# Altium schematic symbol library Wuhu_V1.SCHLIB: 10 symbols
Pins are listed as number, name and electrical type; pins without a type are passive.

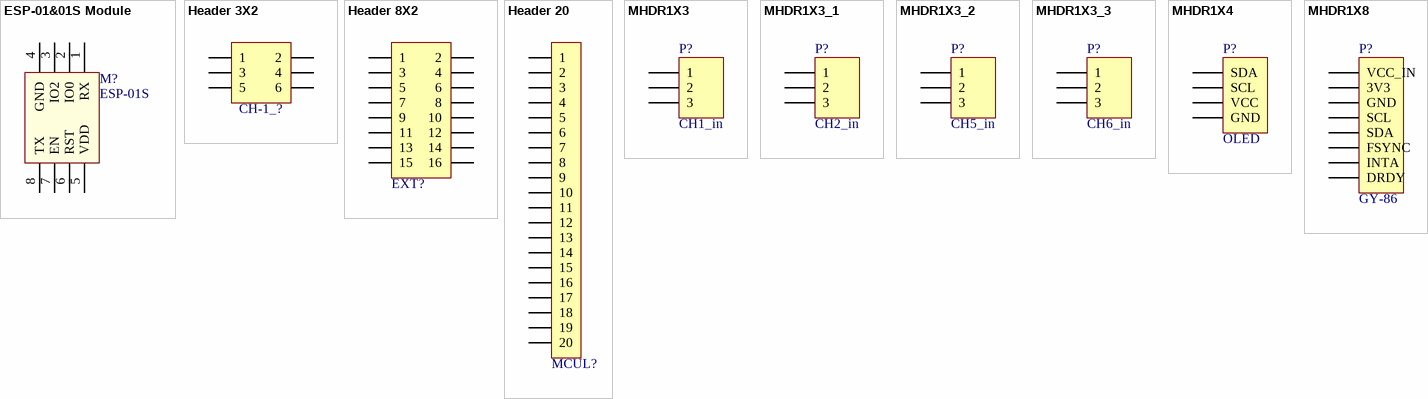
[diagram p0: symbols ESP-01&01S Module to MHDR1X8]

## ESP-01&01S Module
designator M?, comment ESP-01S
footprint ESP-01&01S Module
pins: 1 RX, 2 IO0, 3 IO2, 4 GND, 5 VDD, 6 RST, 7 EN, 8 TX

## Header 3X2
designator CH-1_?, comment Header3X2  (value not drawn)
3*2P接插件; 版权归属: 源创客; BOM名称: 3*2P接插件; 学习资源: www.ooocke.com
footprint IDC2.54-LI-2x3P (6P简易牛角座)
footprint HDR2.54-LI-2x3P (双排排针，3x2脚)
footprint HDR2.54-M-LS-2x3P (脚距：2.54mm，贴片双排母)
footprint HDR2.54-WI-2x3P (双排弯脚排针，3x2脚)
pins: 1, 2, 3, 4, 5, 6

## Header 8X2
designator EXT?  (value not drawn)
8*2P接插件; 版权归属: 源创客; BOM名称: 8*2P接插件; 学习资源: www.ooocke.com
footprint IDC2.54-LI-2x8P (16P简易牛角座)
footprint HDR2.54-LI-2x8P (双排排针，8x2脚)
footprint HDR2.54-M-LS-2x8P (脚距：2.54mm，贴片双排母)
footprint HDR2.54-WI-2x8P (双排弯脚排针，8x2脚)
pins: 1, 2, 3, 4, 5, 6, 7, 8, 9, 10, 11, 12, 13, 14, 15, 16

## Header 20
designator MCUL?, comment HDR-1X20  (value not drawn)
20P接插件; 版权归属: 源创客; BOM名称: 20P接插件; 学习资源: www.ooocke.com
footprint HDR2.54-LI-20P (排针，20脚)
footprint HDR2.54-M-LI-20P (排母，20脚)
footprint HDR2.54-WI-20P (弯脚排针，20脚)
footprint HDR2.54-WS-20P (20P卧式贴片排针2.54)
footprint HDR2.54-Y-LI-20P (圆孔排母，20脚)
footprint HDR2.54-M-WS-20P (20P卧式贴片排母2.54)
pins: 1, 2, 3, 4, 5, 6, 7, 8, 9, 10, 11, 12, 13, 14, 15, 16, 17, 18, 19, 20

## MHDR1X3
designator P?, comment CH1_in
Header, 3-Pin; LatestRevisionDate: 17-Jul-2002; LatestRevisionNote: Re-released for DXP Platform.; Publisher: Altium Limited
footprint HDR2.54-LI-3P (排针，3脚)
signal-integrity model Connector
footprint HDR2.54-WI-2x3P (双排弯脚排针，3x2脚); pin to pad 2>3 3>5
footprint HDR2.54-WI-2x3P (双排弯脚排针，3x2脚); pin to pad 2>3 3>5
footprint HDR2.54-WI-3P (弯脚排针，3脚)
pins: 1, 2, 3

## MHDR1X3_1
designator P?, comment CH2_in
Header, 3-Pin; LatestRevisionDate: 17-Jul-2002; LatestRevisionNote: Re-released for DXP Platform.; Publisher: Altium Limited
footprint HDR2.54-LI-3P (排针，3脚)
signal-integrity model Connector
footprint HDR2.54-WI-2x3P (双排弯脚排针，3x2脚); pin to pad 1>2 2>4 3>6
footprint HDR2.54-WI-3P (弯脚排针，3脚)
pins: 1, 2, 3

## MHDR1X3_2
designator P?, comment CH5_in
Header, 3-Pin; LatestRevisionDate: 17-Jul-2002; LatestRevisionNote: Re-released for DXP Platform.; Publisher: Altium Limited
footprint HDR2.54-LI-3P (排针，3脚)
signal-integrity model Connector
footprint HDR2.54-WI-3P (弯脚排针，3脚)
pins: 1, 2, 3

## MHDR1X3_3
designator P?, comment CH6_in
Header, 3-Pin; LatestRevisionDate: 17-Jul-2002; LatestRevisionNote: Re-released for DXP Platform.; Publisher: Altium Limited
footprint HDR2.54-LI-3P (排针，3脚)
signal-integrity model Connector
footprint HDR2.54-WI-3P (弯脚排针，3脚)
pins: 1, 2, 3

## MHDR1X4
designator P?, comment OLED
Header, 4-Pin; LatestRevisionDate: 17-Jul-2002; LatestRevisionNote: Re-released for DXP Platform.; Publisher: Altium Limited
footprint HDR2.54-M-LI-4P (排母，4脚)
signal-integrity model Connector
footprint IIC OLED 128*64
pins: 1 SDA, 2 SCL, 3 VCC, 4 GND

## MHDR1X8
designator P?, comment GY-86
Header, 8-Pin; LatestRevisionDate: 17-Jul-2002; LatestRevisionNote: Re-released for DXP Platform.; Publisher: Altium Limited
footprint HDR2.54-M-LI-8P (排母，8脚)
signal-integrity model Connector
footprint GY-86
pins: 1 VCC_IN, 2 3V3, 3 GND, 4 SCL, 5 SDA, 6 FSYNC, 7 INTA, 8 DRDY